# Altium footprint library NCP164CSN330T1G_Voltage_regulator.PcbLib: 1 footprints
Each footprint in its own frame and in the unit in brackets; x right, y up, seen from the top. Pads: shape width x height; smd on the part's side, far side on the other; paste and mask are expansions set on the pad; w line width, h text height; cw(c..) or ccw(c..) is an arc to the next point about the centre after c.
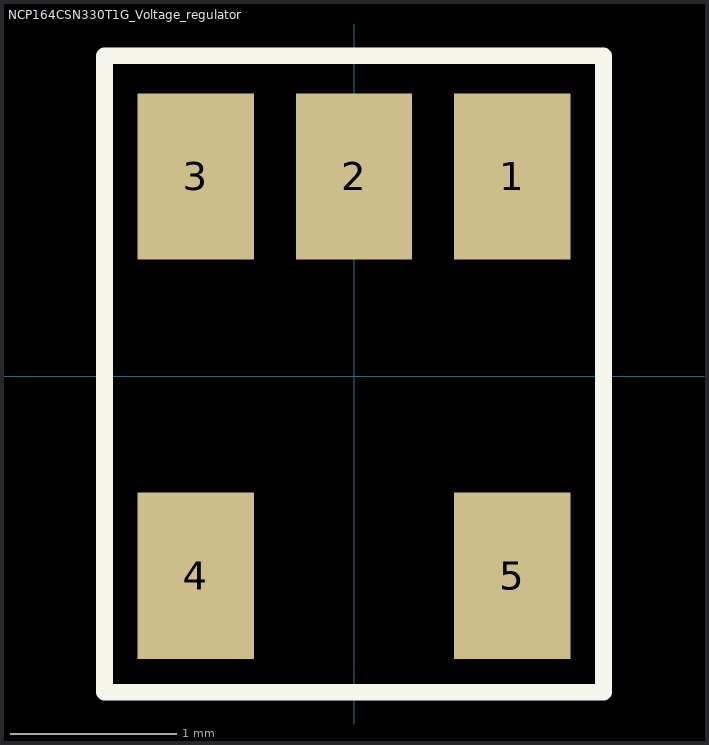
[diagram p0: the footprint, top view; thin cyan lines are the x and y axes]

## NCP164CSN330T1G_Voltage_regulator [mm] "For NCP164CSN330T1G_Voltage_regulator and for NCV8730"
pads (5):
  rect 0.7x1 smd: 1(0.95,1.2) 2(0,1.2) 3(-0.95,1.2) 4(-0.95,-1.2) 5(0.95,-1.2)
Top Overlay:
  lines w0.1: -1.5,-1.9 1.5,-1.9 1.5,1.925 -1.5,1.925 -1.5,-1.9